# EAGLE library part B5441 (library mynixies)
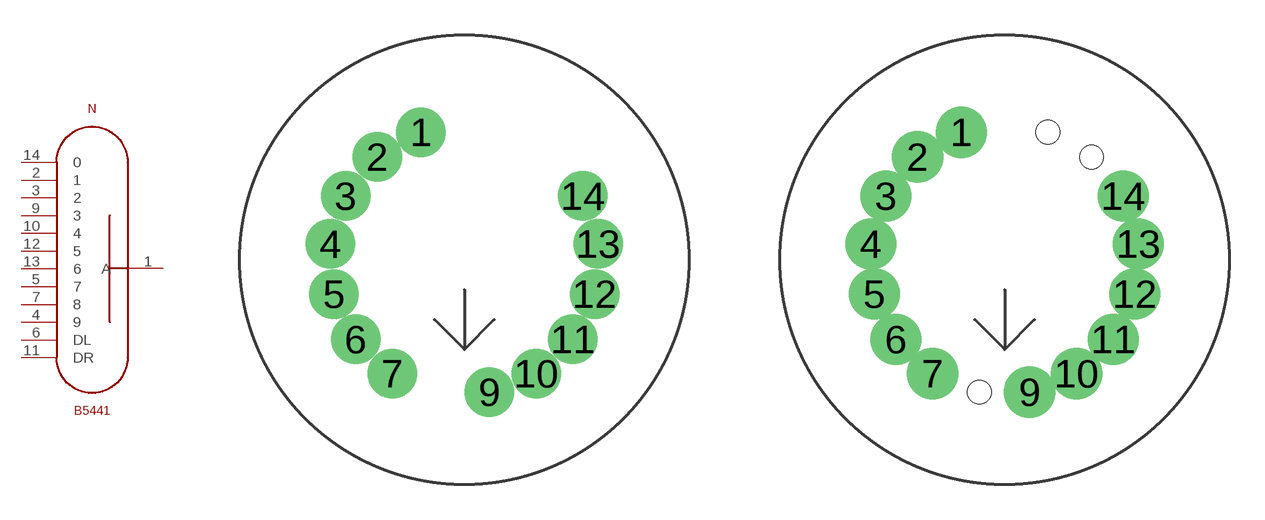
[diagram p4: symbol with the pads of B5441-DSUB; footprints B5441-DSUB, B5441-MILL-MAX]

Designator prefix N

## B5441  [B5441-DSUB]
1  A  pas
2  1  pas
3  2  pas
4  9  pas
5  7  pas
6  DL  pas
7  8  pas
9  3  pas
10  4  pas
11  DR  pas
12  5  pas
13  6  pas
14  0  pas

## B54410339  [B5441-MILL-MAX]
Pads as for B5441-DSUB

## B54410339-1  [B5441-MILL-MAX1]
Pads as for B5441-DSUB

## Footprint B5441-DSUB (pad centres in mm)
drill 1.4 pad 1.8: 1 -1.837,5.412; 2 -3.693,4.362; 3 -5.034,2.705; 4 -5.675,0.672; 5 -5.527,-1.455; 6 -4.609,-3.379; 7 -3.05,-4.833; 9 1.066,-5.615; 10 3.05,-4.833; 11 4.609,-3.379; 12 5.527,-1.455; 13 5.675,0.672; 14 5.034,2.705

## Footprint B5441-MILL-MAX (pad centres in mm)
drill 1.45 pad 1.8: 1 -1.837,5.412; 2 -3.693,4.362; 3 -5.034,2.705; 4 -5.675,0.672; 5 -5.527,-1.455; 6 -4.609,-3.379; 7 -3.05,-4.833; 9 1.066,-5.615; 10 3.05,-4.833; 11 4.609,-3.379; 12 5.527,-1.455; 13 5.675,0.672; 14 5.034,2.705
hole 1 at 1.837,5.412
hole 1 at 3.693,4.362
hole 1 at -1.066,-5.615

## Footprint B5441-MILL-MAX1 (pad centres in mm)
drill 1.45 pad 1.8 offset: 1 -1.837,5.412; 2 -3.693,4.362; 3 -5.034,2.705; 4 -5.675,0.672; 5 -5.527,-1.455; 6 -4.609,-3.379; 7 -3.05,-4.833; 9 1.066,-5.615; 10 3.05,-4.833; 11 4.609,-3.379; 12 5.527,-1.455; 13 5.675,0.672; 14 5.034,2.705
hole 1 at 1.837,5.412
hole 1 at 3.693,4.362
hole 1 at -1.066,-5.615